# Altium schematic symbol library ISO1050DUBR.Schlib: 1 symbol
Pins are listed as number, name and electrical type; pins without a type are passive.

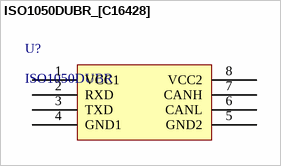
[diagram p0: symbol ISO1050DUBR_[C16428]]

## ISO1050DUBR_[C16428]
designator U?, comment ISO1050DUBR
CAN
footprint SMD-8_6.3mm
pins: 1 VCC1, 2 RXD, 3 TXD, 4 GND1, 5 GND2, 6 CANL, 7 CANH, 8 VCC2